# EAGLE library part EPCS64 (library altera)
64 Mbit Serial Configuration Device
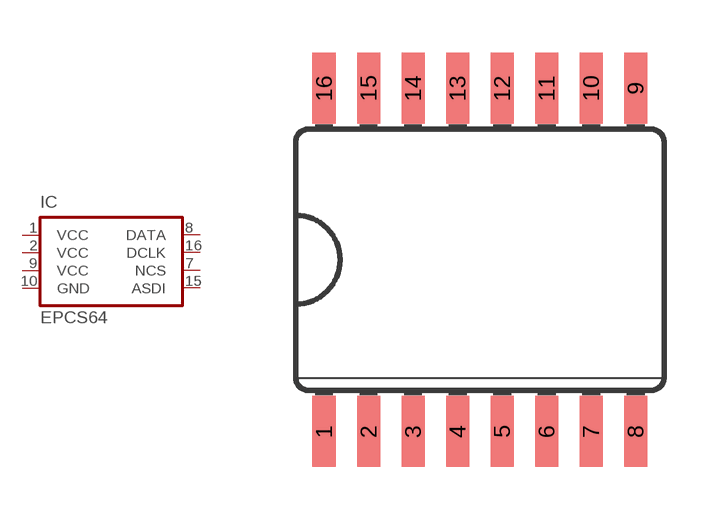
[diagram p4: symbol with the pads of SO16L; footprint SO16L]

Designator prefix IC

## EPCS64SI16  [SO16L]
1  VCC  pwr
2  VCC  pwr
7  NCS  in
8  DATA  out
9  VCC  pwr
10  GND  pwr
15  ASDI  in
16  DCLK  in

## Footprint SO16L (pad centres in mm)
Small Outline Package .300 SIOC Source: http://www.maxim-ic.com/cgi-bin/packages?pkg=16%2FSOIC%2E300&Type=Max
smd 0.66 x 2.032: 1 -4.445,-4.902; 2 -3.175,-4.902; 3 -1.905,-4.902; 4 -0.635,-4.902; 5 0.635,-4.902; 6 1.905,-4.902; 7 3.175,-4.902; 8 4.445,-4.902; 9 4.445,4.902; 10 3.175,4.902; 11 1.905,4.902; 12 0.635,4.902; 13 -0.635,4.902; 14 -1.905,4.902; 15 -3.175,4.902; 16 -4.445,4.902